# EAGLE library part APA102 (library mspfacedraft3)
APA102 SPI RGB LED APA102 is a chainable RGB LED. The control protocol is a variant of SPI.
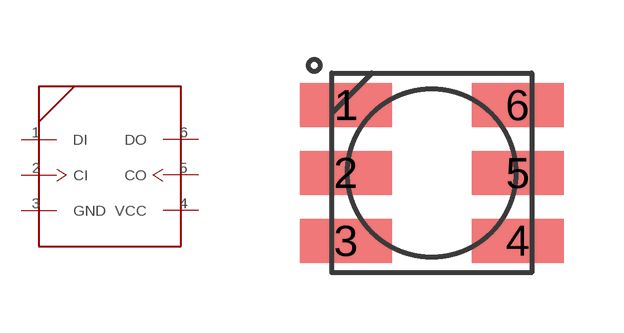
[diagram p0: symbol with the pads of 5050; footprint 5050]

Designator prefix -

## APA102  [5050]
1  DI  in
2  CI  in
3  GND  pwr
4  VCC  pwr
5  CO  out
6  DO  out

## Footprint 5050 (pad centres in mm)
smd 2.3 x 1.1: 1 -2.15,1.7; 2 -2.15,0; 3 -2.15,-1.7; 4 2.15,-1.7; 5 2.15,0; 6 2.15,1.7